# Altium schematic symbol library Schlib_AbraconLLC.SchLib: 17 symbols
Pins are listed as number, name and electrical type; pins without a type are passive.

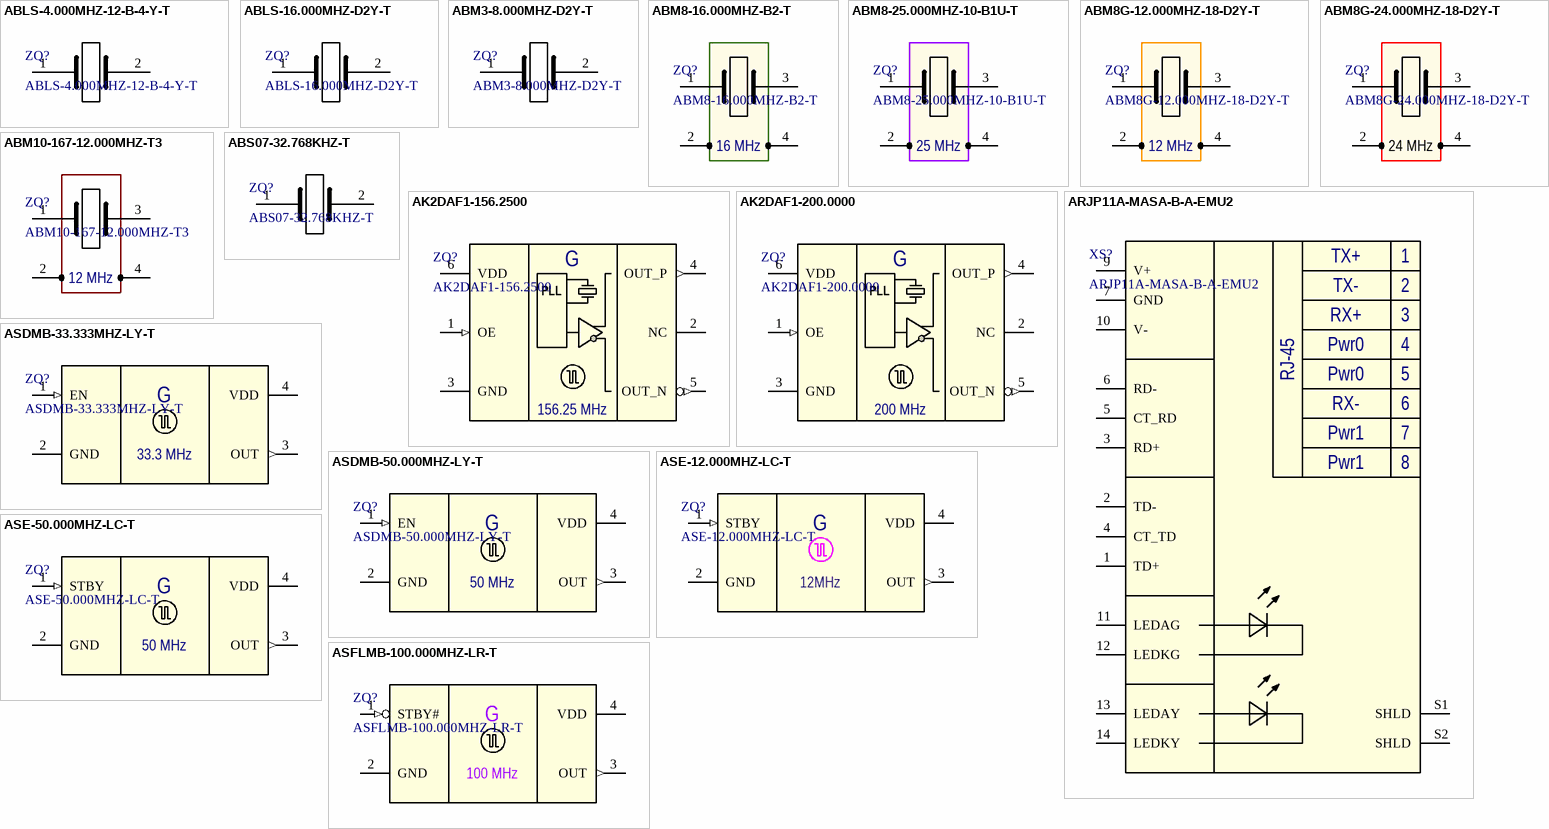
[diagram p0: symbols ABLS-4.000MHZ-12-B-4-Y-T to ASFLMB-100.000MHZ-LR-T]

## ABLS-4.000MHZ-12-B-4-Y-T
designator ZQ?
Quartz Crystal (Frequency Stability ±30ppm); Manufacturer: Abracon LLC; Load Capacitance: 12pF; ESR: 180 Ohms; Part Number: ABLS-4.000MHZ-12-B-4-Y-T; Package: HC-49/US; Frequency Stability: ±30ppm; Frequency Tolerance: ±30ppm
footprint HC-49/US
pins: 1 XTAL0, 2 XTAL1

## ABLS-16.000MHZ-D2Y-T
designator ZQ?
Quartz Crystal (Frequency Stability ±30ppm); Manufacturer: Abracon LLC; Load Capacitance: 18pF; Frequency Tolerance: ±20ppm; ESR: 40 Ohms; Part Number: ABLS-16.000MHZ-D2Y-T; Package: HC-49/US; Frequency Stability: ±30ppm
footprint HC-49/US
pins: 1 XTAL0, 2 XTAL1

## ABM3-8.000MHZ-D2Y-T
designator ZQ?
Quartz Crystal (Frequency Stability ±30ppm); Manufacturer: Abracon LLC; Load Capacitance: 18pF; Frequency Tolerance: ±20ppm; ESR: 140 Ohms; Part Number: ABM3-8.000MHZ-D2Y-T; Package: SMD5032; Frequency Stability: ±30ppm
footprint SMD5032
pins: 1 XTAL0, 2 XTAL1

## ABM8-16.000MHZ-B2-T
designator ZQ?
Quartz Crystal (Frequency Stability ±10ppm); Manufacturer: Abracon LLC; Load Capacitance: 18pF; Frequency Tolerance: ±20ppm; Frequency Stability: ±50ppm; ESR (Equivalent Series Resistance): 70 Ohms; Operating Mode: Fundamental; Part Number: ABM8-16.000MHZ-B2-T; Package: SMD3225
footprint SMD3225
pins: 1 XTAL0, 2 GND (power), 3 XTAL1, 4 GND (power)
text: 16 MHz

## ABM8-25.000MHZ-10-B1U-T
designator ZQ?
Quartz Crystal (Frequency Stability ±10ppm); Manufacturer: Abracon LLC; Load Capacitance: 10pF; Part Number: ABM8-25.000MHZ-10-B1U-T; Package: SMD3225; Frequency Tolerance: ±10ppm; Frequency Stability: ±10ppm
footprint SMD3225
pins: 1 XTAL0, 2 GND (power), 3 XTAL1, 4 GND (power)
text: 25 MHz

## ABM8G-12.000MHZ-18-D2Y-T
designator ZQ?
Quartz Crystal (Frequency Stability ±20ppm); Manufacturer: Abracon LLC; Load Capacitance: 18pF; Frequency Stability: ±50ppm; Operating Mode: Fundamental; Part Number: ABM8G-12.000MHZ-18-D2Y-T; Package: SMD3225; Frequency Tolerance: ±20ppm
footprint SMD3225
pins: 1 XTAL0, 2 GND (power), 3 XTAL1, 4 GND (power)
text: 12 MHz

## ABM8G-24.000MHZ-18-D2Y-T
designator ZQ?
Quartz Crystal 24MHz; Manufacturer: Abracon LLC; Load Capacitance: 18pF; Frequency Tolerance: ±20ppm; Frequency Stability: ±30ppm; ESR (Equivalent Series Resistance): 70 Ohms; Operating Mode: Fundamental; Part Number: ABM8G-24.000MHZ-18-D2Y-T; Package: SMD3225
footprint SMD3225
pins: 1 XTAL0, 2 GND (power), 3 XTAL1, 4 GND (power)
text: 24 MHz

## ABM10-167-12.000MHZ-T3
designator ZQ?
Quartz Crystal (Frequency Stability ±30ppm); Manufacturer: Abracon LLC; Load Capacitance: 8pF; Part Number: ABM10-167-12.000MHZ-T3; Package: SMD2520
footprint SMD2520B
pins: 1 XTAL0, 2 GND (power), 3 XTAL1, 4 GND (power)
text: 12 MHz

## ABS07-32.768KHZ-T
designator ZQ?
Quartz Crystal (Frequency Stability ±20ppm); Manufacturer: Abracon LLC; Load Capacitance: 12.5pF; ESR: 70 kOhms; Part Number: ABS07-32.768KHZ-T; Package: SMD 3.2x1.5x0.9mm; Frequency Stability: ±20ppm; Frequency Tolerance: ±20ppm
footprint ABS07
pins: 1 XTAL0, 2 XTAL1

## AK2DAF1-156.2500
designator ZQ?
Clock Oscillator with LVDS output (Frequency Stability ±30ppm); Manufacturer: Abracon LLC; PartNumber: AK2DAF1-156.2500; Package: SMD2520
footprint SMD3225_AK2
pins: 1 OE (in), 2 NC (hiz), 3 GND (power), 4 OUT_P (out), 5 OUT_N (out), 6 VDD (power)
text: G; PLL; 156.25 MHz

## AK2DAF1-200.0000
designator ZQ?
Clock Oscillator with LVDS output (Frequency Stability ±30ppm); Manufacturer: Abracon LLC; PartNumber: AK2DAF1-200.0000; Package: SMD2520
footprint SMD3225_AK2
pins: 1 OE (in), 2 NC (hiz), 3 GND (power), 4 OUT_P (out), 5 OUT_N (out), 6 VDD (power)
text: G; PLL; 200 MHz

## ARJP11A-MASA-B-A-EMU2
designator XS?
Connector, RJ-45 with integrated magnetics, Gold, R/A, TH; Manufacturer: Abracon LLC; Part Number: ARJP11A-MASA-B-A-EMU2
footprint ARJP11A-MASA-B-A-EMU2 (RJ-45 with integrated magnetics, 14-Leads, TH)
pins: 1 TD+, 2 TD-, 3 RD+, 4 CT_TD, 5 CT_RD, 6 RD-, 7 GND, 9 V+ (power), 10 V- (power), 11 LEDAG, 12 LEDKG, 13 LEDAY, 14 LEDKY, S1 SHLD, S2 SHLD
text: TX+; TX-; RX+; Pwr0; RJ-45; RX-; Pwr1; 8

## ASDMB-33.333MHZ-LY-T
designator ZQ?
Clock Oscillator with LVCMOS output (Frequency Stability ±10ppm); Manufacturer: Abracon LLC; Part Number: ASDMB-33.333MHZ-LY-T; Package: SMD2520
footprint ASDMB
pins: 1 EN (in), 2 GND (power), 3 OUT (out), 4 VDD (power)
text: G; 33.3 MHz

## ASDMB-50.000MHZ-LY-T
designator ZQ?
Clock Oscillator with LVCMOS output (Frequency Stability ±10ppm); Manufacturer: Abracon LLC; Part Number: ASDMB-50.000MHZ-LY-T; Package: SMD2520
footprint ASDMB
pins: 1 EN (in), 2 GND (power), 3 OUT (out), 4 VDD (power)
text: G; 50 MHz

## ASE-12.000MHZ-LC-T
designator ZQ?
Clock Oscillator with LVCMOS output (Frequency Stability ±50ppm); Manufacturer: Abracon LLC; Supply Voltage Nom: 3.3V; Load Capacitance: 15pF; Part Number: ASE-12.000MHZ-LC-T; Package: SMD3225; Frequency Stability: 50ppm
footprint SMD3225
pins: 1 STBY (in), 2 GND (power), 3 OUT (out), 4 VDD (power)
text: G; 12MHz

## ASE-50.000MHZ-LC-T
designator ZQ?
Clock Oscillator with LVCMOS output (Frequency Stability ±50ppm); Manufacturer: Abracon LLC; Supply Voltage Nom: 3.3V; Load Capacitance: 15pF; Part Number: ASE-50.000MHZ-LC-T; Package: SMD3225; Frequency Stability: 50ppm
footprint SMD3225
pins: 1 STBY (in), 2 GND (power), 3 OUT (out), 4 VDD (power)
text: G; 50 MHz

## ASFLMB-100.000MHZ-LR-T
designator ZQ?
MEMS CLOCK OSCILLATOR; Manufacturer: Abracon LLC; Part Number: ASFLMB-100.000MHZ-LR-T; Package: SMD2520
footprint SMD5032_4PIN (ASFLMB Series Abracon LLC)
pins: 1 STBY# (in), 2 GND (power), 3 OUT (out), 4 VDD (power)
text: G; 100 MHz